# Altium footprint library SSW-110-01-G-D.PCBLIB: 1 footprints
Each footprint in its own frame and in the unit in brackets; x right, y up, seen from the top. Pads: shape width x height; smd on the part's side, far side on the other; paste and mask are expansions set on the pad; w line width, h text height; cw(c..) or ccw(c..) is an arc to the next point about the centre after c.
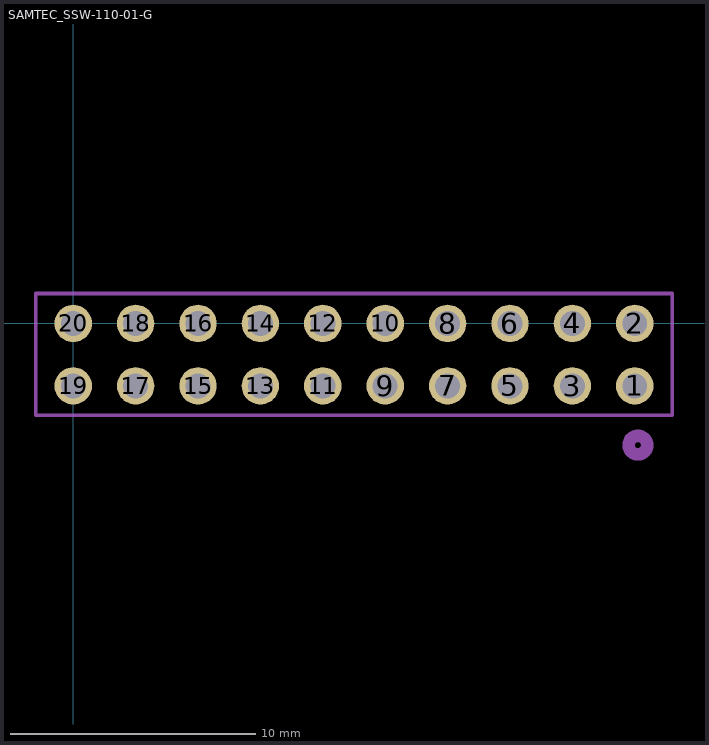
[diagram p0: the footprint, top view; thin cyan lines are the x and y axes]

## SAMTEC_SSW-110-01-G [mil]
pads (20):
  round 60 hole 40: 1(900,-100) 2(900,0) 3(800,-100) 4(800,0) 5(700,-100) 6(700,0) 7(600,-100) 8(600,0) 9(500,-100) 10(500,0) 11(400,-100) 12(400,0) 13(300,-100) 14(300,0) 15(200,-100) 16(200,0) 17(100,-100) 18(100,0) 19(0,-100) 20(0,0)
Mechanical 8:
  lines w6: -60,-147 960,-147 960,48 -60,48 -60,-147
  lines w20: 890,-195 ccw(c905,-195) 920,-195 ccw(c905,-195) 890,-195
Mechanical 22:
  lines w6: -60,-147 960,-147 960,48 -60,48 -60,-147
  lines w20: 890,-195 ccw(c905,-195) 920,-195 ccw(c905,-195) 890,-195